# Altium schematic symbol library Vishay_Library.SchLib: 16 symbols
Pins are listed as number, name and electrical type; pins without a type are passive.

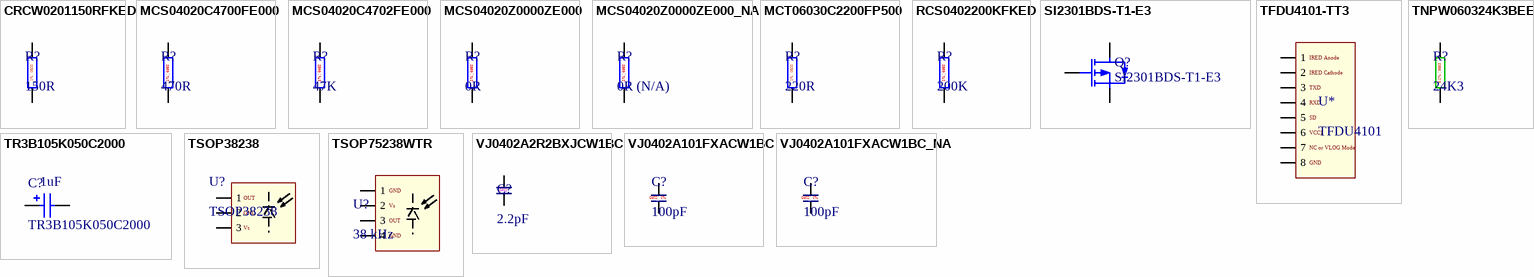
[diagram p0: symbols CRCW0201150RFKED to VJ0402A101FXACW1BC_NA]

## CRCW0201150RFKED
designator R?, comment 150R
Thick Film Resistors - SMD 1/20watt 150ohms 1% 100ppm; Manufacturer: Vishay; Manufacturer Part Number: CRCW0201150RFKED; Power Rating: 50 mW; Temperature Coefficient: 100 PPM / C; Voltage Rating: 30 V; Supplier 1: Mouser; RoHS: RoHS Compliant By Exemption; Category: Thick Film Resistors - SMD; Stock 1: 35036; Pricing 1: 1=0.261, 10=0.116, 100=0.052, 1000=0.033, 10000=0.026, 30000=0.024, 250000=0.022 (USD); Height: 0.23 mm; Length: 0.6 mm; Operating Temperature Range: - 55 C to + 155 C; Package / Case: 0201 (0603 metric); Packaging: Cut Tape; Product: Thick Film Resistors SMD; Resistance: 150 Ohms; Series: CRCW0201 e3; Termination Style: SMD/SMT; Tolerance: 1 %; Width: 0.3 mm; Brand: Vishay; Case Code - in: 0201; Case Code - mm: 0603; Maximum Operating Temperature: + 155 C; Minimum Operating Temperature: - 55 C; Standard Pack Qty: 10000; RoHS - Mouser: E; Minimum Order Quantity: 1; Reeling: True; ComponentLink1URL: http://www.mouser.com/ds/2/427/crcw0201e3-239671.pdf; ComponentLink1Description: http://www.mouser.com/ds/2/427/crcw0201e3-239671.pdf
footprint RES0603 (Chip Resistor, 2-Leads, Body 1.6x0.8mm, IPC Medium Density)
pins: 1, 2
text: 1% | 0603

## MCS04020C4700FE000
designator R?, comment 470R
RES SMD 470 OHM 1% 1/10W 0402; Manufacturer: Vishay BCcomponents; Manufacturer Part Number: MCS04020C4700FE000; Temperature Coefficient: 50ppm/°C; Max Power Dissipation: 100mW; Supplier 1: Digi-Key; Stock 1: 98990; Pricing 1: 1=0.3, 10=0.254, 100=0.0993, 1000=0.04158, 2500=0.03812, 5000=0.03465 (USD); Case/Package: 0402; Contact Plating: Tin; Min Operating Temperature: -55°C; Max Operating Temperature: 125°C; Resistance: 470R; Tolerance: 1%; Composition: Thin Film; Packaging: Tape and Reel; Package Quantity: 10000; Number of Terminations: 2; Military Standard: Not; Length: 0.039inch; Height: 0.015inch; Width: 0.02inch; Depth: 0.5mm; Radiation Hardening: No; Lead Free: Lead Free; ComponentLink1URL: https://datasheet.ciiva.com/16892/mc-pro-16892843.pdf; ComponentLink1Description: https://datasheet.ciiva.com/16892/mc-pro-16892843.pdf; ComponentLink2URL: https://datasheet.ciiva.com/2569/mc-pro-2569740.pdf; ComponentLink2Description: https://datasheet.ciiva.com/2569/mc-pro-2569740.pdf; ComponentLink3URL: https://datasheet.ciiva.com/8901/mc-pro-8901326.pdf; ComponentLink3Description: https://datasheet.ciiva.com/8901/mc-pro-8901326.pdf
footprint Vishay Beyschlag MCS0402 (Vishay MCS0402)
pins: 1, 2
text: 1% | 0402

## MCS04020C4702FE000
designator R?, comment 47K
Res Thin Film 0402 47K Ohm 1% 1/16W ±50ppm/C Molded SMD Paper T/R; Manufacturer: Vishay BCcomponents; Manufacturer Part Number: MCS04020C4702FE000; Resistance: 47kR; Temperature Coefficient: 50ppm/°C; Power Rating: 100mW; Voltage Rating: 50V; Supplier 1: Mouser; Stock 1: 7724; Pricing 1: 1=0.11, 10=0.11, 50=0.076, 100=0.065, 1000=0.054, 10000=0.04 (USD); Case/Package: 0402; Contact Plating: Tin; Case Code (Metric): 1005; Case Code (Imperial): 0402; Min Operating Temperature: -55°C; Max Operating Temperature: 125°C; Tolerance: 1%; Composition: Thin Film; Packaging: Tape and Reel; Military Standard: Not; Voltage Rating (DC): 50V; Length: 1mm; Depth: 0.5mm; Width: 500um; Radiation Hardening: No; REACH SVHC: No SVHC; Lead Free: Lead Free; ComponentLink1URL: https://datasheet.ciiva.com/17178/mc-pro-17178488.pdf; ComponentLink1Description: https://datasheet.ciiva.com/17178/mc-pro-17178488.pdf; ComponentLink2URL: https://datasheet.ciiva.com/8900/mc-pro-8900138.pdf; ComponentLink2Description: https://datasheet.ciiva.com/8900/mc-pro-8900138.pdf
footprint Vishay Beyschlag MCS0402 (Vishay MCS0402)
pins: 1, 2
text: 1% | 0402

## MCS04020Z0000ZE000
designator R?, comment 0R
Res Thin Film 0402 0 Ohm Molded SMD Automotive Medical Paper T/R; Manufacturer: Vishay Beyschlag; Manufacturer Part Number: MCS04020Z0000ZE000; Resistance: 0mR; Power Rating: 100mW; Voltage Rating: 50V; Supplier 1: Digi-Key; Stock 1: 192140; Pricing 1: 1=0.31, 10=0.266, 25=0.1936, 50=0.1404, 100=0.1041, 250=0.07988, 500=0.06292, 1000=0.04356, 5000=0.0363 (USD); Mount: Surface Mount; Case/Package: 0402; Contact Plating: Nickel,Tin; Case Code (Metric): 1005; Case Code (Imperial): 0402; Min Operating Temperature: -55°C; Max Operating Temperature: 125°C; Composition: Thin Film; Package Quantity: 1; Packaging: Tape and Reel; Number of Terminations: 2; Military Standard: Not; Max Power Dissipation: 100mW; Voltage Rating (DC): 50V; Termination: Wraparound; Length: 1mm; Height: 0.015inch; Width: 0.02inch; Depth: 0.5mm; Radiation Hardening: No; REACH SVHC: No SVHC; Lead Free: Lead Free; ComponentLink1URL: https://datasheet.ciiva.com/2472/mc-pro-2472006.pdf; ComponentLink1Description: https://datasheet.ciiva.com/2472/mc-pro-2472006.pdf; ComponentLink2URL: https://datasheet.ciiva.com/8901/mc-pro-8901830.pdf; ComponentLink2Description: https://datasheet.ciiva.com/8901/mc-pro-8901830.pdf; ComponentLink3URL: https://datasheet.ciiva.com/2472/mc-pro-2472007.pdf; ComponentLink3Description: https://datasheet.ciiva.com/2472/mc-pro-2472007.pdf; ComponentLink4URL: https://datasheet.ciiva.com/2472/mc-pro-2472008.pdf; ComponentLink4Description: https://datasheet.ciiva.com/2472/mc-pro-2472008.pdf
footprint Vishay Beyschlag MCS0402 (Vishay MCS0402)
pins: 1, 2
text: 1% | 0402

## MCS04020Z0000ZE000_NA
designator R?, comment 0R (N/A)  (no BOM)
Res Thin Film 0402 0 Ohm Molded SMD Automotive Medical Paper T/R; Manufacturer: Vishay Beyschlag; Manufacturer Part Number: MCS04020Z0000ZE000; Resistance: 0mR; Power Rating: 100mW; Voltage Rating: 50V; Supplier 1: Digi-Key; Stock 1: 192140; Pricing 1: 1=0.31, 10=0.266, 25=0.1936, 50=0.1404, 100=0.1041, 250=0.07988, 500=0.06292, 1000=0.04356, 5000=0.0363 (USD); Mount: Surface Mount; Case/Package: 0402; Contact Plating: Nickel,Tin; Case Code (Metric): 1005; Case Code (Imperial): 0402; Min Operating Temperature: -55°C; Max Operating Temperature: 125°C; Composition: Thin Film; Package Quantity: 1; Packaging: Tape and Reel; Number of Terminations: 2; Military Standard: Not; Max Power Dissipation: 100mW; Voltage Rating (DC): 50V; Termination: Wraparound; Length: 1mm; Height: 0.015inch; Width: 0.02inch; Depth: 0.5mm; Radiation Hardening: No; REACH SVHC: No SVHC; Lead Free: Lead Free; ComponentLink1URL: https://datasheet.ciiva.com/2472/mc-pro-2472006.pdf; ComponentLink1Description: https://datasheet.ciiva.com/2472/mc-pro-2472006.pdf; ComponentLink2URL: https://datasheet.ciiva.com/8901/mc-pro-8901830.pdf; ComponentLink2Description: https://datasheet.ciiva.com/8901/mc-pro-8901830.pdf; ComponentLink3URL: https://datasheet.ciiva.com/2472/mc-pro-2472007.pdf; ComponentLink3Description: https://datasheet.ciiva.com/2472/mc-pro-2472007.pdf; ComponentLink4URL: https://datasheet.ciiva.com/2472/mc-pro-2472008.pdf; ComponentLink4Description: https://datasheet.ciiva.com/2472/mc-pro-2472008.pdf
footprint Vishay Beyschlag MCS0402 - NA (Vishay MCS0402 Not Mounted)
pins: 1, 2
text: 1% | 0402

## MCT06030C2200FP500
designator R?, comment 220R
Thin Film Resistors - SMD 0.125 220OHM 1% 0603 50ppm Auto; Manufacturer: Vishay / Beyschlag; Manufacturer Part Number: MCT06030C2200FP500; Power Rating: 125 mW (1/8 W); Resistance: 220 Ohms; Temperature Coefficient: 50 PPM / C; Voltage Rating: 75 V; Supplier 1: Mouser; RoHS: RoHS Compliant; Category: Thin Film Resistors - SMD; Stock 1: 8875; Pricing 1: 1=0.100, 50=0.052, 100=0.041, 500=0.033, 1000=0.024, 5000=0.020, 10000=0.018, 15000=0.017 (USD); Height: 0.45 mm; Length: 1.6 mm; Operating Temperature Range: - 55 C to + 125 C; Package / Case: 0603 (1608 metric); Packaging: Cut Tape; Product: Professional Resistors Thin Film SMD; Series: MCx - Professional; Termination Style: SMD/SMT; Tolerance: 1 %; Type: Professional Thin Film Chip Resistors; Width: 0.8 mm; Brand: Vishay / Beyschlag; Case Code - in: 0603; Case Code - mm: 1608; Maximum Operating Temperature: + 125 C; Minimum Operating Temperature: - 55 C; Standard Pack Qty: 5000; RoHS - Mouser: Y; Minimum Order Quantity: 1; Reeling: True; ComponentLink1URL: https://www.mouser.com/ds/2/427/mcx0x0xpro-223600.pdf; ComponentLink1Description: https://www.mouser.com/ds/2/427/mcx0x0xpro-223600.pdf
footprint RES0603 (Chip Resistor, 2-Leads, Body 1.6x0.8mm, IPC Medium Density)
pins: 1, 2
text: 1% | 0603

## RCS0402200KFKED
designator R?, comment 200K
RES SMD 200K OHM 1% 1/5W 0402; Manufacturer: Vishay Dale; Manufacturer Part Number: RCS0402200KFKED; Resistance: 200kR; Max Power Dissipation: 200mW; Temperature Coefficient: 100ppm/°C; Supplier 1: Mouser; Stock 1: 16064; Pricing 1: 1=0.11, 10=0.11, 50=0.11, 100=0.038, 1000=0.016, 10000=0.011 (USD); Case/Package: 0402; Min Operating Temperature: -55°C; Max Operating Temperature: 155°C; Package Quantity: 10000; Packaging: Tape and Reel; Composition: Thick Film; Number of Terminations: 2; Tolerance: 1%; Length: 0.039inch; Height: 0.016inch; Width: 0.02inch; ComponentLink1URL: http://www.vishay.com/docs/20065/rcse3.pdf; ComponentLink1Description: http://www.vishay.com/docs/20065/rcse3.pdf
footprint RES0402
pins: 1, 2
text: 1% | 0402

## SI2301BDS-T1-E3
designator Q?
P-Channel MOSFET, 20V 2.0A 0.9W
simulation model PMOS (MOSFET-P)
footprint SOT23_N (SOT23, 3-Leads, Body 2.9x1.3mm, Pitch 0.95mm, Lead Span 2.3mm - Reverse Pinning, IPC Medium Density)
pins: 1 G, 2 S, 3 D

## TFDU4101-TT3
designator U*, comment TFDU4101
Infrared Transceivers SIR 115.2kbits Top View; Manufacturer: Vishay Semiconductors; Manufacturer Part Number: TFDU4101-TT3; Wavelength: 900 nm; Data Transmission Rate: 115.2 Kbps; Fall Time: 100 ns, 300 ns; Half Intensity Angle Degrees: 24 deg; If - Forward Current: 80 mA; Operating Supply Voltage: 2.4 V to 5.5 V; Pulse Width: 2.2 us; Radiant Intensity: 65 mW/sr; Transmission Distance: 1 m; Supplier 1: Mouser; RoHS: RoHS Compliant; Category: Infrared Transceivers; Stock 1: 2008; Pricing 1: 1=5.63, 10=4.66, 100=3.84, 250=3.72, 500=3.36, 1000=3.36, 2000=3.14 (USD); Dimensions: 9.7 mm x 4.7 mm x 4 mm; Height: 4.7 mm; Length: 9.9 mm; Packaging: Cut Tape; Series: TFDU; Width: 4.2 mm; Brand: Vishay Semiconductors; Maximum Operating Temperature: + 85 C; Minimum Operating Temperature: - 30 C; Moisture Sensitive: Yes; Rise Time: 100 ns, 300 ns; Standard Pack Qty: 1000; RoHS - Mouser: Y; Minimum Order Quantity: 1; Reeling: True; ComponentLink1URL: http://www.mouser.com/ds/2/427/tfdu4101-240267.pdf; ComponentLink1Description: http://www.mouser.com/ds/2/427/tfdu4101-240267.pdf
footprint TFDU4101 (TFDU4101 IR Tranceiver)
pins: 1, 2, 3, 4, 5, 6, 7, 8
text: IRED Anode; IRED Cathode; TXD; RXD; SD; VCC1; NC or VLOG Mode; GND

## TNPW060324K3BEEA
designator R?, comment 24K3
Thin Film Resistors - SMD 24.3Kohms .1% 25ppm; Manufacturer: Vishay; Manufacturer Part Number: TNPW060324K3BEEA; Power Rating: 100 mW; Temperature Coefficient: 25 PPM / C; Tolerance: 0.1 %; Voltage Rating: 75 V; Qualification: AEC-Q200; Supplier 1: Mouser; RoHS: RoHS Compliant; Category: Thin Film Resistors - SMD; Stock 1: 1565; Pricing 1: 1=0.632, 25=0.444, 100=0.347, 250=0.310, 500=0.251, 1000=0.204, 5000=0.170, 10000=0.144, 25000=0.142 (USD); Diameter: -; Height: 0.45 mm; Length: 1.55 mm; Package / Case: 0603 (1608 metric); Packaging: Cut Tape; Product: Precision Resistors Thin Film SMD; Resistance: 24.3 kOhms; Series: TNPW e3; Termination Style: SMD/SMT; Type: High Stability Thin Film Flat Chip Resistor; Width: 0.85 mm; Brand: Vishay; Case Code - in: 0603; Case Code - mm: 1608; Maximum Operating Temperature: + 155 C; Minimum Operating Temperature: - 55 C; Standard Pack Qty: 5000; RoHS - Mouser: Y; Minimum Order Quantity: 1; Reeling: True; ComponentLink1URL: http://www.mouser.com/ds/2/427/tnpw_e3-64594.pdf; ComponentLink1Description: http://www.mouser.com/ds/2/427/tnpw_e3-64594.pdf
footprint RES0603 (Chip Resistor, 2-Leads, Body 1.6x0.8mm, IPC Medium Density)
pins: 1, 2
text: 0.1% | 0603

## TR3B105K050C2000
designator C?  value 1uF
Tantalum, -55-85C, 3528, 50V, ±10%; Published: 8-Jun-2000; LatestRevisionDate: 29-May-2009; LatestRevisionNote: IPC-7351 Footprint Added.; PackageReference: C0805; Publisher: Altium Limited; PackageDescription: Chip Capacitor
footprint TR3B
pins: 1, 2
1 alternate drawing of the same symbol

## TSOP38238
designator U?
VISHAY   TSOP38238.   IR RECEIVER, 45M, THROUGH HOLE; Manufacturer: Vishay Semiconductors; Output Current: 5mA; Nominal Supply Current: 450uA; Power Dissipation: 10mW; Min Supply Voltage: 2.5V; Max Supply Voltage: 5.5V; Supplier 1: Mouser; Manufacturer Part Number: TSOP38238; Stock 1: 14159; Pricing 1: 1=1.08, 10=0.743, 50=0.743, 100=0.595, 1000=0.378, 10000=0.338 (USD); Mount: Through Hole,PCB; Case/Package: Radial; Number of Pins: 3; Contact Plating: Tin; Min Operating Temperature: -25°C; Max Operating Temperature: 85°C; Packaging: Bulk; Package Quantity: 1500; Operating Supply Current: 450uA; Sensing Distance: 45m; Orientation: Side View; Length: 5mm; Height: 6.95mm; Width: 4.8mm; Radiation Hardening: No; REACH SVHC: Unknown; Lead Free: Lead Free; ComponentLink1URL: https://datasheet.ciiva.com/11770/0900766b80e56a95-11770103.pdf; ComponentLink1Description: https://datasheet.ciiva.com/11770/0900766b80e56a95-11770103.pdf; ComponentLink2URL: https://datasheet.ciiva.com/15272/tsop382-15272210.pdf; ComponentLink2Description: https://datasheet.ciiva.com/15272/tsop382-15272210.pdf; ComponentLink3URL: https://datasheet.ciiva.com/1235/tsop382-1235254.pdf; ComponentLink3Description: https://datasheet.ciiva.com/1235/tsop382-1235254.pdf; ComponentLink4URL: https://datasheet.ciiva.com/3150/tsop382-3150902.pdf; ComponentLink4Description: https://datasheet.ciiva.com/3150/tsop382-3150902.pdf; ComponentLink5URL: https://datasheet.ciiva.com/16592/tsop382-16592471.pdf; ComponentLink5Description: https://datasheet.ciiva.com/16592/tsop382-16592471.pdf; ComponentLink6URL: https://datasheet.ciiva.com/2821/tsop382-2821177.pdf; ComponentLink6Description: https://datasheet.ciiva.com/2821/tsop382-2821177.pdf; ComponentLink7URL: https://datasheet.ciiva.com/46396/1809228-46396923.pdf; ComponentLink7Description: https://datasheet.ciiva.com/46396/1809228-46396923.pdf; ComponentLink8URL: https://datasheet.ciiva.com/8078/tsop382-8078143.pdf; ComponentLink8Description: https://datasheet.ciiva.com/8078/tsop382-8078143.pdf
footprint TSOP38238 (TSOP38238 IR Receiver)
pins: 1, 2, 3
text: OUT; GND; Vs

## TSOP75238WTR
designator U?, comment 38 kHz
Infrared Receivers IR Receiver Module; Manufacturer: Vishay Semiconductors; Manufacturer Part Number: TSOP75238WTR; Output Current: 5 mA; Beam Angle: 50 deg; Minimum High Level Output Voltage: 100 mV; Operating Supply Current: 350 uA; Operating Supply Voltage: 2.5 V to 5.5 V; Pd - Power Dissipation: 10 mW; Transmission Distance: 45 m; Supplier 1: Mouser; RoHS: RoHS Compliant; Category: Infrared Receivers; Stock 1: 5656; Pricing 1: 1=1.79, 10=1.29, 100=1.02, 500=0.819, 1000=0.704, 2300=0.666 (USD); Height: 3.2 mm; Length: 6.8 mm; Package / Case: SMD-4; Packaging: Cut Tape; Series: TSOP75x..W; Width: 3 mm; Brand: Vishay Semiconductors; Carrier Frequency: 38 kHz; Mounting Style: SMD/SMT; Viewing Angle: 50 deg; Maximum Operating Temperature: + 85 C; Minimum Operating Temperature: - 25 C; Moisture Sensitive: Yes; Standard Pack Qty: 2300; RoHS - Mouser: Y; Minimum Order Quantity: 1; Reeling: True; ComponentLink1URL: http://www.mouser.com/ds/2/427/tsop752-481929.pdf; ComponentLink1Description: http://www.mouser.com/ds/2/427/tsop752-481929.pdf
footprint TSOP75238 (TSOP75238 IR Receiver)
pins: 1, 2, 3, 4
text: GND; Vs; OUT

## VJ0402A2R2BXJCW1BC
designator C?, comment 2.2pF
Multilayer Ceramic Capacitors MLCC - SMD/SMT 0402 2.2pF 16volts C0G +/-0.1pF; Manufacturer: Vishay / Vitramon; Manufacturer Part Number: VJ0402A2R2BXJCW1BC; Tolerance: 0.1 pF; Type: Ultra Small Commodity MLCCs; Voltage Rating DC: 16 VDC; Dielectric: C0G (NP0); Supplier 1: Mouser; RoHS: RoHS Compliant; Category: Multilayer Ceramic Capacitors MLCC - SMD/SMT; Stock 1: 9820; Pricing 1: 1=0.100, 50=0.071, 100=0.051, 500=0.035, 1000=0.019, 10000=0.012, 20000=0.011, 50000=0.009, 100000=0.007 (USD); Capacitance: 2.2 pF; Height: 0.55 mm; Length: 1 mm; Package / Case: 0402 (1005 metric); Packaging: Cut Tape; Product: General Type MLCCs; Series: VJ W1BC; Termination Style: SMD/SMT; Voltage Rating AC: -; Width: 0.5 mm; Brand: Vishay / Vitramon; Case Code - in: 0402; Case Code - mm: 1005; Maximum Operating Temperature: + 125 C; Minimum Operating Temperature: - 55 C; Standard Pack Qty: 10000; RoHS - Mouser: Y; Minimum Order Quantity: 1; Reeling: True; ComponentLink1URL: https://www.mouser.com/ds/2/427/vjw1bcbascomseries-223529.pdf; ComponentLink1Description: https://www.mouser.com/ds/2/427/vjw1bcbascomseries-223529.pdf
footprint Cap0402 MIN Vishay
pins: 1, 2

## VJ0402A101FXACW1BC
designator C?, comment 100pF
Multilayer Ceramic Capacitors MLCC - SMD/SMT 0402 100pF 50volts C0G 1%; Manufacturer: Vishay Vitramon; Manufacturer Part Number: VJ0402A101FXACW1BC; Dielectric Material: Tantalum; Voltage Rating (DC): 50V; Supplier 1: Mouser; Stock 1: 4478; Pricing 1: 10000=0.026 (USD); Mount: Surface Mount; Case/Package: 0402; Case Code (Imperial): 0402; Case Code (Metric): 1005; Min Operating Temperature: -55°C; Max Operating Temperature: 125°C; Capacitance: 100pF; Tolerance: 1%; Packaging: Tape and Reel; Package Quantity: 10000; Dielectric: C0G; Termination: SMD/SMT; Length: 1mm; Height: 0.55mm; Width: 0.5mm; Depth: 0.5mm; Lead Free: Lead Free; ComponentLink1URL: https://datasheet.ciiva.com/11477/vjw1bcbascomseries-11477228.pdf; ComponentLink1Description: https://datasheet.ciiva.com/11477/vjw1bcbascomseries-11477228.pdf
footprint Cap0402 MIN Vishay
pins: 1, 2
text: 0402 | 1%

## VJ0402A101FXACW1BC_NA
designator C?, comment 100pF  (no BOM)
Multilayer Ceramic Capacitors MLCC - SMD/SMT 0402 100pF 50volts C0G 1%; Manufacturer: Vishay Vitramon; Manufacturer Part Number: VJ0402A101FXACW1BC; Dielectric Material: Tantalum; Voltage Rating (DC): 50V; Supplier 1: Mouser; Stock 1: 4478; Pricing 1: 10000=0.026 (USD); Mount: Surface Mount; Case/Package: 0402; Case Code (Imperial): 0402; Case Code (Metric): 1005; Min Operating Temperature: -55°C; Max Operating Temperature: 125°C; Capacitance: 100pF; Tolerance: 1%; Packaging: Tape and Reel; Package Quantity: 10000; Dielectric: C0G; Termination: SMD/SMT; Length: 1mm; Height: 0.55mm; Width: 0.5mm; Depth: 0.5mm; Lead Free: Lead Free; ComponentLink1URL: https://datasheet.ciiva.com/11477/vjw1bcbascomseries-11477228.pdf; ComponentLink1Description: https://datasheet.ciiva.com/11477/vjw1bcbascomseries-11477228.pdf
footprint Cap0402 MIN Vishay N/A
pins: 1, 2
text: 0402 | 1%